# EAGLE library part 53261-0671_6P_H (library MCU_Print_V2)
Pin header, PicoBlade 6-pin SMD, 53261-0671, Molex, single row 90°, Distrelec : 143-54-312
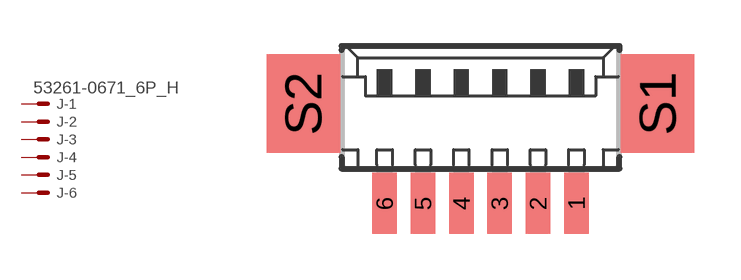
[diagram p11: symbol with the pads of 53261-06; footprint 53261-06]

Designator prefix J; gates -1=MV -2=M -3=M -4=M -5=M -6=M

## 53261-0671_6P_H (CABLE_ASSEMBLY_31564: Distrelec : 143-54-488; CONTACT_MATERIAL: Tin-plated phosphor bronze; CONTACT_RESISTANCE: 20mOhm; CRIMP_SOCKET_FEMALE_32-28AWG_50058-8100: Distrelec : 143-00-962; CRIMP_SOCKET_FEMALE__28-26AWG_50079-8100: Distrelec : 143-00-964; DESIGN: Pin strip, single row 90° SMD; MANUFACTURER: Molex; MOUSER: 538-53261-0671; PITCH: 1,25mm; POLE_NO: 6; RATED_CURRENT: 1A; RATED_VOLTAGE: 125VAC; SERIES: PicoBlade; SOCKET_51021-0600: Distrelec : 143-54-403)  [53261-06]
1  -1:S  pas
2  -2:S  pas
3  -3:S  pas
4  -4:S  pas
5  -5:S  pas
6  -6:S  pas

## Footprint 53261-06 (pad centres in mm)
Pico-Blade 53261-0671 vertical (l x p x h / 12,75 x 3,75 x 3,45mm)
smd 0.8 x 2: 1 3.125,-2.5; 2 1.875,-2.5; 3 0.625,-2.5; 4 -0.625,-2.5; 5 -1.875,-2.5; 6 -3.125,-2.5
smd 2.4 x 3.2: S1 5.775,0.75; S2 -5.775,0.75